# EAGLE library part MAX30100 (library EE)
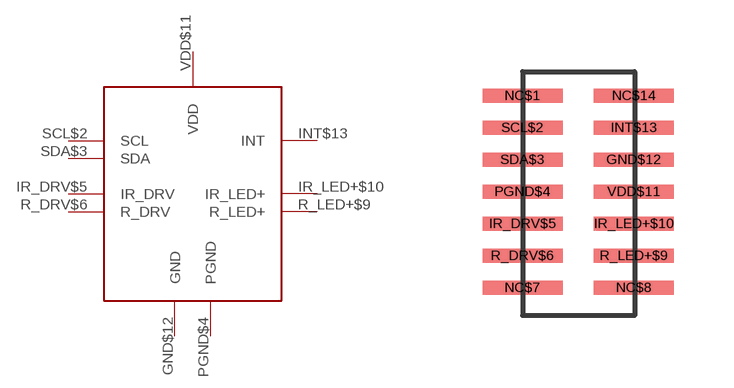
[diagram p8: symbol with the pads of MAX30100; footprint MAX30100]

Designator prefix -

## MAX30100  [MAX30100]
GND$12  GND
INT$13  INT
IR_DRV$5  IR_DRV
IR_LED+$10  IR_LED+
PGND$4  PGND
R_DRV$6  R_DRV
R_LED+$9  R_LED+
SCL$2  SCL
SDA$3  SDA
VDD$11  VDD

## Footprint MAX30100 (pad centres in mm)
smd 2 x 0.35: GND$12 2.785,3.2; INT$13 2.785,4; IR_DRV$5 0,1.6; IR_LED+$10 2.785,1.6; NC$1 0,4.8; NC$7 0,0; NC$8 2.785,0; NC$14 2.785,4.8; PGND$4 0,2.4; R_DRV$6 0,0.8; R_LED+$9 2.785,0.8; SCL$2 0,4; SDA$3 0,3.2; VDD$11 2.785,2.4